# Altium footprint library PCB_Footprint.PcbLib: 124 footprints (part 3 of 8)
Each footprint in its own frame and in the unit in brackets; x right, y up, seen from the top. Pads: shape width x height; smd on the part's side, far side on the other; paste and mask are expansions set on the pad; w line width, h text height; cw(c..) or ccw(c..) is an arc to the next point about the centre after c.
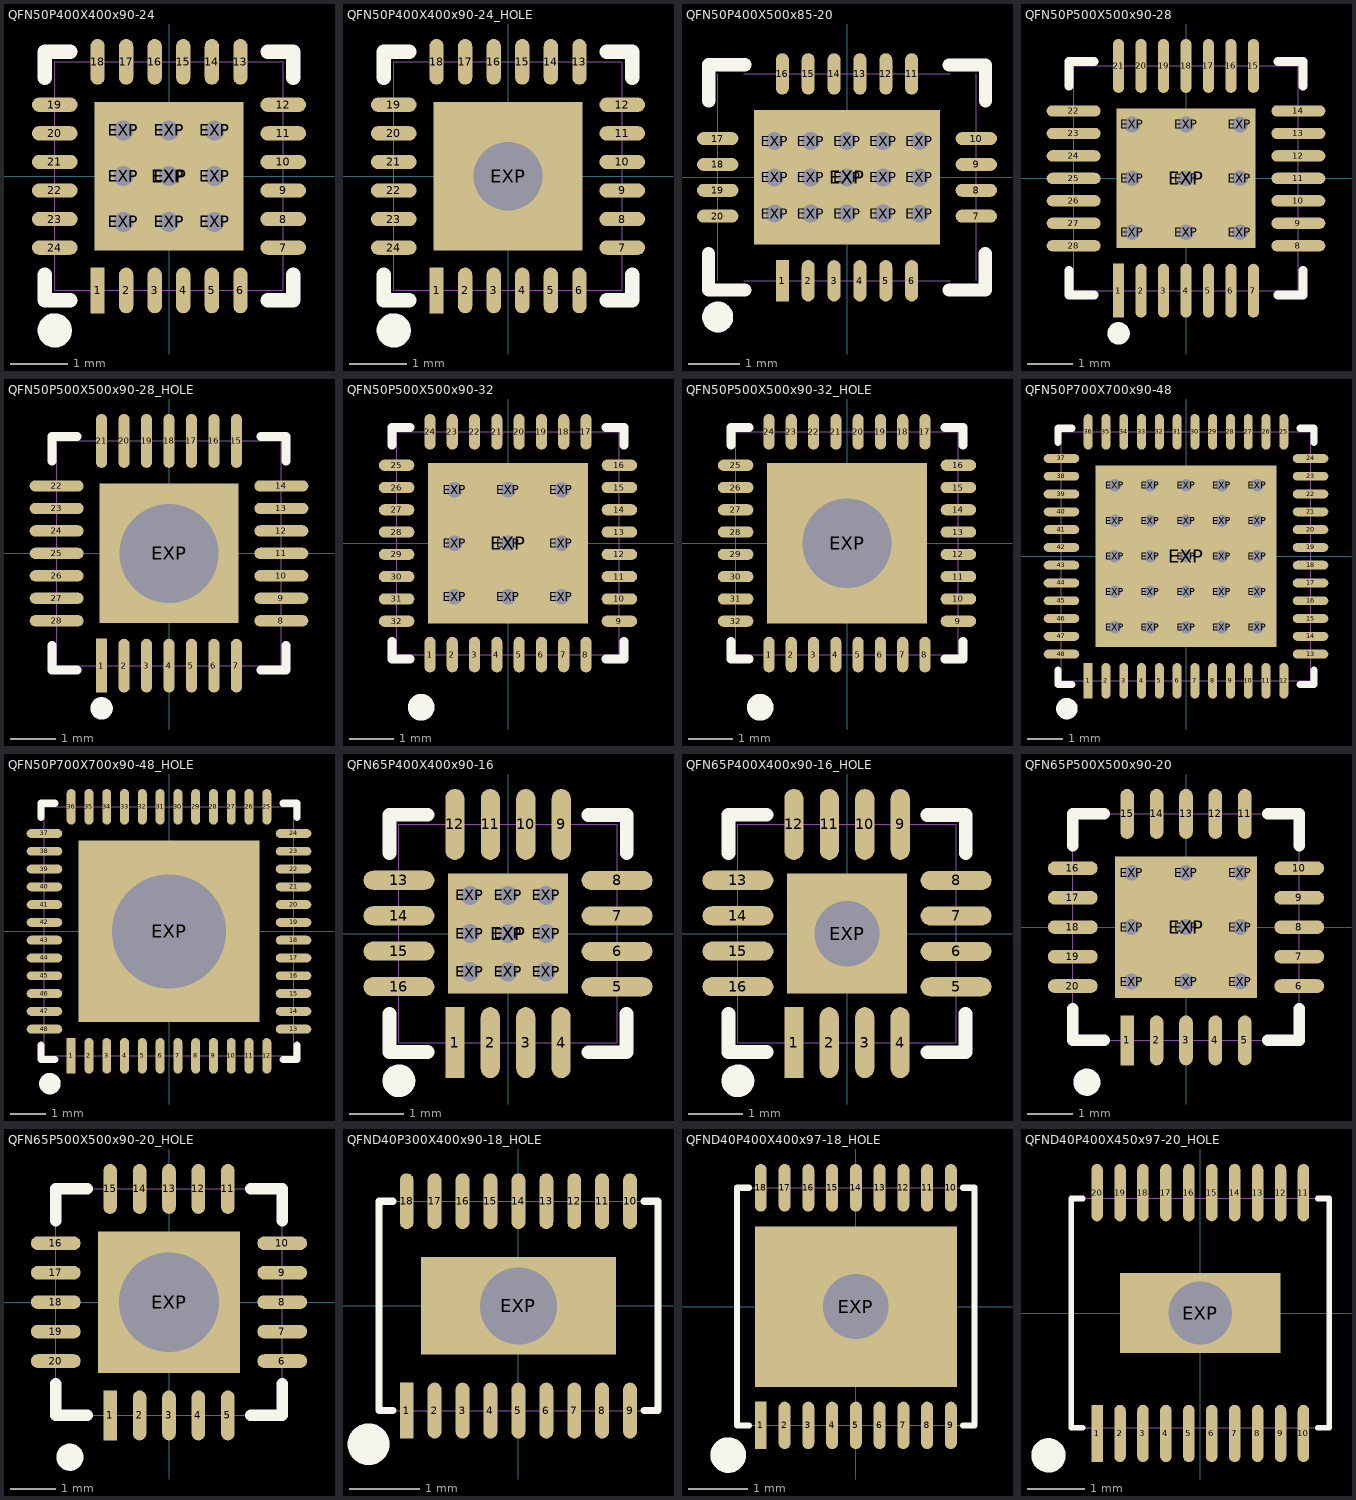
[diagram p2: the footprints below, top view; thin cyan lines are the x and y axes]

## QFN50P400X400x90-24 [mm] "QFN, 24-Leads, Body 4x4x0.9mm, Pitch 0.5mm"
height 0.9
pads (34):
  rect 0.25x0.8 smd: 1(-1.25,-2)
  oval 0.25x0.8 smd: 2(-0.75,-2) 3(-0.25,-2) 4(0.25,-2) 5(0.75,-2) 6(1.25,-2) 13(1.25,2) 14(0.75,2) 15(0.25,2) 16(-0.25,2) 17(-0.75,2) 18(-1.25,2)
  oval 0.8x0.25 smd: 7(2,-1.251) 8(2,-0.751) 9(2,-0.251) 10(2,0.249) 11(2,0.749) 12(2,1.249) 19(-2,1.249) 20(-2,0.749) 21(-2,0.249) 22(-2,-0.251) 23(-2,-0.751) 24(-2,-1.251)
  round 0.65 hole 0.35: EXP(-0.8,-0.8) EXP(-0.8,0) EXP(-0.8,0.8) EXP(0,-0.8) EXP(0,0) EXP(0,0.8) EXP(0.8,-0.8) EXP(0.8,0) EXP(0.8,0.8)
  rect 2.6x2.6 smd: EXP(0,0)
Top Overlay:
  circle w0.3: c-2,-2.7 r0.15
  lines w0.254: -2.175,-2.175 -1.725,-2.175 ; -2.175,2.173 -1.725,2.173 ; -2.174,-2.176 -2.174,-1.726 ; -2.174,1.724 -2.174,2.174 ; 1.725,-2.175 2.175,-2.175 ; 1.725,2.173 2.175,2.173 ; 2.174,-2.176 2.174,-1.726 ; 2.174,1.724 2.174,2.174
Component Body:
  lines w0.01: -2,-2 2,-2 2,2 -2,2 -2,-2
3D body: height 0.9, standoff 0, extent -1.999,-1.999 1.999,1.999

## QFN50P400X400x90-24_HOLE [mm] "QFN, 24-Leads, Body 4x4x0.9mm, Pitch 0.5mm, Hole in exposed pad"
height 0.9
pads (25):
  rect 0.25x0.8 smd: 1(-1.25,-2)
  oval 0.25x0.8 smd: 2(-0.75,-2) 3(-0.25,-2) 4(0.25,-2) 5(0.75,-2) 6(1.25,-2) 13(1.25,2) 14(0.75,2) 15(0.25,2) 16(-0.25,2) 17(-0.75,2) 18(-1.25,2)
  oval 0.8x0.25 smd: 7(2,-1.251) 8(2,-0.751) 9(2,-0.251) 10(2,0.249) 11(2,0.749) 12(2,1.249) 19(-2,1.249) 20(-2,0.749) 21(-2,0.249) 22(-2,-0.251) 23(-2,-0.751) 24(-2,-1.251)
  rect 2.6x2.6 hole 1.2: EXP(0,0)
Top Overlay:
  circle w0.3: c-2,-2.7 r0.15
  lines w0.254: -2.175,-2.175 -1.725,-2.175 ; -2.175,2.173 -1.725,2.173 ; -2.174,-2.176 -2.174,-1.726 ; -2.174,1.724 -2.174,2.174 ; 1.725,-2.175 2.175,-2.175 ; 1.725,2.173 2.175,2.173 ; 2.174,-2.176 2.174,-1.726 ; 2.174,1.724 2.174,2.174
Component Body:
  lines w0.01: -2,-2 2,-2 2,2 -2,2 -2,-2
3D body: height 0.9, standoff 0, extent -1.999,-1.999 1.999,1.999

## QFN50P400X500x85-20 [mm] "QFN, 20-Leads, Body 4x5x0.85mm, Pitch 0.5mm"
height 0.85
pads (36):
  rect 0.25x0.8 smd: 1(-1.25,-2)
  oval 0.25x0.8 smd: 2(-0.75,-2) 3(-0.25,-2) 4(0.25,-2) 5(0.75,-2) 6(1.25,-2) 11(1.25,2) 12(0.75,2) 13(0.25,2) 14(-0.25,2) 15(-0.75,2) 16(-1.25,2)
  oval 0.8x0.25 smd: 7(2.5,-0.75) 8(2.5,-0.25) 9(2.5,0.25) 10(2.5,0.75) 17(-2.5,0.75) 18(-2.5,0.25) 19(-2.5,-0.25) 20(-2.5,-0.75)
  round 0.65 hole 0.35: EXP(-1.4,-0.7) EXP(-1.4,0) EXP(-1.4,0.7) EXP(-0.7,-0.7) EXP(-0.7,0) EXP(-0.7,0.7) EXP(0,-0.7) EXP(0,0) EXP(0,0.7) EXP(0.7,-0.7) EXP(0.7,0) EXP(0.7,0.7) EXP(1.4,-0.7) EXP(1.4,0) EXP(1.4,0.7)
  rect 3.6x2.6 smd: EXP(0,0)
Top Overlay:
  circle w0.3: c-2.5,-2.7 r0.15
  lines w0.254: -2.675,-1.475 -2.675,-2.175 -1.975,-2.175 ; -2.674,1.476 -2.674,2.176 -1.974,2.176 ; 1.974,-2.176 2.674,-2.176 2.674,-1.476 ; 1.976,2.173 2.676,2.173 2.676,1.473
Component Body:
  lines w0.01: -2.5,-2 -2.5,2 ; -2,-2 2,-2 ; -2,2 2,2 ; 2.5,-2 2.5,2
3D body: height 0.85, standoff 0, extent -2.5,-1.999 2.5,1.999

## QFN50P500X500x90-28 [mm] "QFN, 28-Leads, quad, Body 5x5x0.9mm, Pitch 0.5mm"
height 0.9
pads (38):
  rect 0.25x1.2 smd: 1(-1.5,-2.5)
  oval 0.25x1.2 smd: 2(-1,-2.5) 3(-0.5,-2.5) 4(0,-2.5) 5(0.5,-2.5) 6(1,-2.5) 7(1.5,-2.5) 15(1.5,2.5) 16(1,2.5) 17(0.5,2.5) 18(0,2.5) 19(-0.5,2.5) 20(-1,2.5) 21(-1.5,2.5)
  oval 1.2x0.25 smd: 8(2.5,-1.5) 9(2.5,-1) 10(2.5,-0.5) 11(2.5,0) 12(2.5,0.5) 13(2.5,1) 14(2.5,1.5) 22(-2.5,1.5) 23(-2.5,1) 24(-2.5,0.5) 25(-2.5,0) 26(-2.5,-0.5) 27(-2.5,-1) 28(-2.5,-1.5)
  round 0.65 hole 0.35: EXP(-1.2,-1.2) EXP(-1.2,0) EXP(-1.2,1.2) EXP(0,-1.2) EXP(0,0) EXP(0,1.2) EXP(1.2,-1.2) EXP(1.2,0) EXP(1.2,1.2)
  rect 3.1x3.1 smd: EXP(0,0)
Top Overlay:
  circle w0.25: c-1.5,-3.45 r0.125
  lines w0.2: -2.6,-2.05 -2.6,-2.6 -2.05,-2.6 ; -2.6,2.05 -2.6,2.6 -2.05,2.6 ; 2.05,-2.6 2.6,-2.6 2.6,-2.05 ; 2.05,2.6 2.6,2.6 2.6,2.05
Component Body:
  lines w0.01: -2.5,-2.5 2.5,-2.5 2.5,2.5 -2.5,2.5 -2.5,-2.5
3D body: height 0.9, standoff 0, extent -2.5,-2.5 2.5,2.5

## QFN50P500X500x90-28_HOLE [mm] "QFN, 28-Leads, quad, Body 5x5x0.9mm, Pitch 0.5mm, Hole in exposed pad"
height 0.9
pads (29):
  rect 0.25x1.2 smd: 1(-1.5,-2.5)
  oval 0.25x1.2 smd: 2(-1,-2.5) 3(-0.5,-2.5) 4(0,-2.5) 5(0.5,-2.5) 6(1,-2.5) 7(1.5,-2.5) 15(1.5,2.5) 16(1,2.5) 17(0.5,2.5) 18(0,2.5) 19(-0.5,2.5) 20(-1,2.5) 21(-1.5,2.5)
  oval 1.2x0.25 smd: 8(2.5,-1.5) 9(2.5,-1) 10(2.5,-0.5) 11(2.5,0) 12(2.5,0.5) 13(2.5,1) 14(2.5,1.5) 22(-2.5,1.5) 23(-2.5,1) 24(-2.5,0.5) 25(-2.5,0) 26(-2.5,-0.5) 27(-2.5,-1) 28(-2.5,-1.5)
  rect 3.1x3.1 hole 2.2: EXP(0,0)
Top Overlay:
  circle w0.25: c-1.5,-3.45 r0.125
  lines w0.2: -2.6,-2.05 -2.6,-2.6 -2.05,-2.6 ; -2.6,2.05 -2.6,2.6 -2.05,2.6 ; 2.05,-2.6 2.6,-2.6 2.6,-2.05 ; 2.05,2.6 2.6,2.6 2.6,2.05
Component Body:
  lines w0.01: -2.5,-2.5 -2.5,2.5 2.5,2.5 2.5,-2.5 -2.5,-2.5
3D body: height 0.9, standoff 0, extent -2.5,-2.5 2.5,2.5

## QFN50P500X500x90-32 [mm] "QFN, 32-Leads, quad, Body 5x5x0.9mm, Pitch 0.5mm"
height 0.9
pads (42):
  oval 0.25x0.8 smd: 1(-1.75,-2.5) 2(-1.25,-2.5) 3(-0.75,-2.5) 4(-0.25,-2.5) 5(0.25,-2.5) 6(0.75,-2.5) 7(1.25,-2.5) 8(1.75,-2.5) 17(1.75,2.5) 18(1.25,2.5) 19(0.75,2.5) 20(0.25,2.5) 21(-0.25,2.5) 22(-0.75,2.5) 23(-1.25,2.5) 24(-1.75,2.5)
  oval 0.8x0.25 smd: 9(2.5,-1.75) 10(2.5,-1.25) 11(2.5,-0.75) 12(2.5,-0.25) 13(2.5,0.25) 14(2.5,0.75) 15(2.5,1.25) 16(2.5,1.75) 25(-2.5,1.75) 26(-2.5,1.25) 27(-2.5,0.75) 28(-2.5,0.25) 29(-2.5,-0.25) 30(-2.5,-0.75) 31(-2.5,-1.25) 32(-2.5,-1.75)
  round 0.65 hole 0.35: EXP(-1.2,-1.2) EXP(-1.2,0) EXP(-1.2,1.2) EXP(0,-1.2) EXP(0,0) EXP(0,1.2) EXP(1.2,-1.2) EXP(1.2,0) EXP(1.2,1.2)
  rect 3.6x3.6 smd: EXP(0,-0.001)
Top Overlay:
  circle w0.3: c-1.948,-3.683 r0.15
  lines w0.2: -2.6,-2.2 -2.6,-2.6 -2.2,-2.6 ; -2.6,2.2 -2.6,2.6 -2.2,2.6 ; 2.2,-2.6 2.6,-2.6 2.6,-2.2 ; 2.2,2.6 2.6,2.6 2.6,2.2
Bottom Solder:
  circle w0.4: c0,-0.001 r0.2
Component Body:
  lines w0.01: -2.5,-2.5 -2.5,2.5 2.5,2.5 2.5,-2.5 -2.5,-2.5
3D body: height 0.9, standoff 0, extent -2.5,-2.5 2.5,2.5

## QFN50P500X500x90-32_HOLE [mm] "QFN, 32-Leads, quad, Body 5x5x0.9mm, Pitch 0.5mm, Hole in exposed pad"
height 0.9
pads (33):
  oval 0.25x0.8 smd: 1(-1.75,-2.5) 2(-1.25,-2.5) 3(-0.75,-2.5) 4(-0.25,-2.5) 5(0.25,-2.5) 6(0.75,-2.5) 7(1.25,-2.5) 8(1.75,-2.5) 17(1.75,2.5) 18(1.25,2.5) 19(0.75,2.5) 20(0.25,2.5) 21(-0.25,2.5) 22(-0.75,2.5) 23(-1.25,2.5) 24(-1.75,2.5)
  oval 0.8x0.25 smd: 9(2.5,-1.75) 10(2.5,-1.25) 11(2.5,-0.75) 12(2.5,-0.25) 13(2.5,0.25) 14(2.5,0.75) 15(2.5,1.25) 16(2.5,1.75) 25(-2.5,1.75) 26(-2.5,1.25) 27(-2.5,0.75) 28(-2.5,0.25) 29(-2.5,-0.25) 30(-2.5,-0.75) 31(-2.5,-1.25) 32(-2.5,-1.75)
  rect 3.6x3.6 hole 2: EXP(0,-0.001)
Top Overlay:
  circle w0.3: c-1.948,-3.683 r0.15
  lines w0.2: -2.6,-2.2 -2.6,-2.6 -2.2,-2.6 ; -2.6,2.2 -2.6,2.6 -2.2,2.6 ; 2.2,-2.6 2.6,-2.6 2.6,-2.2 ; 2.2,2.6 2.6,2.6 2.6,2.2
Component Body:
  lines w0.01: -2.5,-2.5 -2.5,2.5 2.5,2.5 2.5,-2.5 -2.5,-2.5
3D body: height 0.9, standoff 0, extent -2.5,-2.5 2.5,2.5

## QFN50P700X700x90-48 [mm] "QFN, 48-Leads, quad, Body 7x7x0.9mm, Pitch 0.5mm"
height 0.9
pads (74):
  rect 0.25x1 smd: 1(-2.75,-3.5)
  oval 0.25x1 smd: 2(-2.25,-3.5) 3(-1.75,-3.5) 4(-1.25,-3.5) 5(-0.75,-3.5) 6(-0.25,-3.5) 7(0.25,-3.5) 8(0.75,-3.5) 9(1.25,-3.5) 10(1.75,-3.5) 11(2.25,-3.5) 12(2.75,-3.5) 25(2.75,3.5) 26(2.25,3.5) 27(1.75,3.5) 28(1.25,3.5) 29(0.75,3.5) 30(0.25,3.5) 31(-0.25,3.5) 32(-0.75,3.5) 33(-1.25,3.5) 34(-1.75,3.5) 35(-2.25,3.5) 36(-2.75,3.5)
  oval 1x0.25 smd: 13(3.5,-2.75) 14(3.5,-2.25) 15(3.5,-1.75) 16(3.5,-1.25) 17(3.5,-0.75) 18(3.5,-0.25) 19(3.5,0.25) 20(3.5,0.75) 21(3.5,1.25) 22(3.5,1.75) 23(3.5,2.25) 24(3.5,2.75) 37(-3.5,2.75) 38(-3.5,2.25) 39(-3.5,1.75) 40(-3.5,1.25) 41(-3.5,0.75) 42(-3.5,0.25) 43(-3.5,-0.25) 44(-3.5,-0.75) 45(-3.5,-1.25) 46(-3.5,-1.75) 47(-3.5,-2.25) 48(-3.5,-2.75)
  round 0.65 hole 0.35: EXP(-2,-1.999) EXP(-2,-1) EXP(-2,0.001) EXP(-2,1) EXP(-2,2) EXP(-1,-2) EXP(-1,-1.001) EXP(-1,0) EXP(-1,0.999) EXP(-1,1.999) EXP(0,-1.999) EXP(0,-1) EXP(0,0) EXP(0,1) EXP(0,2) EXP(1,-2) EXP(1,-1.001) EXP(1,0) EXP(1,0.999) EXP(1,1.999) EXP(2,-2) EXP(2,-1.001) EXP(2,0) EXP(2,0.999) EXP(2,1.999)
  rect 5.1x5.1 smd: EXP(0,0)
Top Overlay:
  circle w0.3: c-3.348,-4.283 r0.15
  lines w0.2: -3.6,-3.2 -3.6,-3.6 -3.2,-3.6 ; -3.6,3.2 -3.6,3.6 -3.2,3.6 ; 3.2,-3.6 3.6,-3.6 3.6,-3.2 ; 3.2,3.6 3.6,3.6 3.6,3.2
Bottom Solder:
  circle w0.4: c0,0 r0.2
Component Body:
  lines w0.01: -3.5,-3.5 3.5,-3.5 3.5,3.5 -3.5,3.5 -3.5,-3.5
3D body: height 0.9, standoff 0, extent -3.5,-3.5 3.5,3.5

## QFN50P700X700x90-48_HOLE [mm] "QFN, 48-Leads, quad, Body 7x7x0.9mm, Pitch 0.5mm, Hole in exposed pad"
height 0.9
pads (49):
  rect 0.25x1 smd: 1(-2.75,-3.5)
  oval 0.25x1 smd: 2(-2.25,-3.5) 3(-1.75,-3.5) 4(-1.25,-3.5) 5(-0.75,-3.5) 6(-0.25,-3.5) 7(0.25,-3.5) 8(0.75,-3.5) 9(1.25,-3.5) 10(1.75,-3.5) 11(2.25,-3.5) 12(2.75,-3.5) 25(2.75,3.5) 26(2.25,3.5) 27(1.75,3.5) 28(1.25,3.5) 29(0.75,3.5) 30(0.25,3.5) 31(-0.25,3.5) 32(-0.75,3.5) 33(-1.25,3.5) 34(-1.75,3.5) 35(-2.25,3.5) 36(-2.75,3.5)
  oval 1x0.25 smd: 13(3.5,-2.75) 14(3.5,-2.25) 15(3.5,-1.75) 16(3.5,-1.25) 17(3.5,-0.75) 18(3.5,-0.25) 19(3.5,0.25) 20(3.5,0.75) 21(3.5,1.25) 22(3.5,1.75) 23(3.5,2.25) 24(3.5,2.75) 37(-3.5,2.75) 38(-3.5,2.25) 39(-3.5,1.75) 40(-3.5,1.25) 41(-3.5,0.75) 42(-3.5,0.25) 43(-3.5,-0.25) 44(-3.5,-0.75) 45(-3.5,-1.25) 46(-3.5,-1.75) 47(-3.5,-2.25) 48(-3.5,-2.75)
  rect 5.1x5.1 hole 3.2: EXP(0,-0.001)
Top Overlay:
  circle w0.3: c-3.348,-4.283 r0.15
  lines w0.2: -3.6,-3.2 -3.6,-3.6 -3.2,-3.6 ; -3.6,3.2 -3.6,3.6 -3.2,3.6 ; 3.2,-3.6 3.6,-3.6 3.6,-3.2 ; 3.2,3.6 3.6,3.6 3.6,3.2
Component Body:
  lines w0.01: -3.5,-3.5 3.5,-3.5 3.5,3.5 -3.5,3.5 -3.5,-3.5
3D body: height 0.9, standoff 0, extent -3.5,-3.5 3.5,3.5

## QFN65P400X400x90-16 [mm] "QFN, 16-Leads, Body 4x4x0.9mm, Pitch 0.65mm"
height 0.9
pads (26):
  rect 0.35x1.3 smd: 1(-0.975,-2)
  oval 0.35x1.3 smd: 2(-0.325,-2) 3(0.325,-2) 4(0.975,-2) 9(0.976,1.999) 10(0.326,1.999) 11(-0.324,1.999) 12(-0.974,1.999)
  oval 1.3x0.35 smd: 5(1.999,-0.976) 6(1.999,-0.326) 7(1.999,0.324) 8(1.999,0.974) 13(-1.999,0.976) 14(-1.999,0.326) 15(-1.999,-0.324) 16(-1.999,-0.974)
  round 0.65 hole 0.35: EXP(-0.7,-0.7) EXP(-0.7,0) EXP(-0.7,0.7) EXP(0,-0.7) EXP(0,0) EXP(0,0.7) EXP(0.7,-0.7) EXP(0.7,0) EXP(0.7,0.7)
  rect 2.2x2.2 smd: EXP(0,0)
Top Overlay:
  circle w0.3: c-2,-2.7 r0.15
  lines w0.254: -2.175,-1.475 -2.175,-2.175 -1.475,-2.175 ; -2.174,1.476 -2.174,2.176 -1.474,2.176 ; 1.474,-2.176 2.174,-2.176 2.174,-1.476 ; 1.476,2.173 2.176,2.173 2.176,1.473
Component Body:
  lines w0.01: -2,-2 -2,2 2,2 2,-2 -2,-2
3D body: height 0.9, standoff 0, extent -1.999,-1.999 1.999,1.999

## QFN65P400X400x90-16_HOLE [mm] "QFN, 16-Leads, Body 4x4x0.9mm, Pitch 0.65mm, Hole in exposed pad"
height 0.9
pads (17):
  rect 0.35x1.3 smd: 1(-0.975,-2)
  oval 0.35x1.3 smd: 2(-0.325,-2) 3(0.325,-2) 4(0.975,-2) 9(0.976,1.999) 10(0.326,1.999) 11(-0.324,1.999) 12(-0.974,1.999)
  oval 1.3x0.35 smd: 5(1.999,-0.976) 6(1.999,-0.326) 7(1.999,0.324) 8(1.999,0.974) 13(-1.999,0.976) 14(-1.999,0.326) 15(-1.999,-0.324) 16(-1.999,-0.974)
  rect 2.2x2.2 hole 1.2: EXP(0,-0.001)
Top Overlay:
  circle w0.3: c-2,-2.7 r0.15
  lines w0.254: -2.175,-1.475 -2.175,-2.175 -1.475,-2.175 ; -2.174,1.476 -2.174,2.176 -1.474,2.176 ; 1.474,-2.176 2.174,-2.176 2.174,-1.476 ; 1.476,2.173 2.176,2.173 2.176,1.473
Component Body:
  lines w0.01: -2,-2 2,-2 2,2 -2,2 -2,-2
3D body: height 0.9, standoff 0, extent -1.999,-1.999 1.999,1.999

## QFN65P500X500x90-20 [mm] "QFN, 20-Leads, quad, Body 5x5x0.9mm, Pitch 0.65mm"
height 0.9
pads (30):
  rect 0.3x1.1 smd: 1(-1.3,-2.5)
  oval 0.3x1.1 smd: 2(-0.65,-2.5) 3(0,-2.5) 4(0.65,-2.5) 5(1.3,-2.5) 11(1.3,2.5) 12(0.65,2.5) 13(0,2.5) 14(-0.65,2.5) 15(-1.3,2.5)
  oval 1.1x0.3 smd: 6(2.5,-1.3) 7(2.5,-0.65) 8(2.5,0) 9(2.5,0.65) 10(2.5,1.3) 16(-2.5,1.3) 17(-2.5,0.65) 18(-2.5,0) 19(-2.5,-0.65) 20(-2.5,-1.3)
  round 0.65 hole 0.35: EXP(-1.2,-1.2) EXP(-1.2,0) EXP(-1.2,1.2) EXP(0,-1.2) EXP(0,0) EXP(0,1.2) EXP(1.2,-1.2) EXP(1.2,0) EXP(1.2,1.2)
  rect 3.125x3.125 smd: EXP(0,0)
Top Overlay:
  circle w0.3: c-2.188,-3.423 r0.15
  lines w0.254: -2.5,-1.8 -2.5,-2.5 -1.8,-2.5 ; -2.5,1.8 -2.5,2.5 -1.8,2.5 ; 1.8,-2.5 2.5,-2.5 2.5,-1.8 ; 1.8,2.5 2.5,2.5 2.5,1.8
Component Body:
  lines w0.01: -2.5,-2.5 -2.5,2.5 2.5,2.5 2.5,-2.5 -2.5,-2.5
3D body: height 0.9, standoff 0, extent -2.5,-2.5 2.5,2.5

## QFN65P500X500x90-20_HOLE [mm] "QFN, 20-Leads, quad, Body 5x5x0.9mm, Pitch 0.65mm, Hole in exposed pad"
height 0.9
pads (21):
  rect 0.3x1.1 smd: 1(-1.3,-2.5)
  oval 0.3x1.1 smd: 2(-0.65,-2.5) 3(0,-2.5) 4(0.65,-2.5) 5(1.3,-2.5) 11(1.3,2.5) 12(0.65,2.5) 13(0,2.5) 14(-0.65,2.5) 15(-1.3,2.5)
  oval 1.1x0.3 smd: 6(2.5,-1.3) 7(2.5,-0.65) 8(2.5,0) 9(2.5,0.65) 10(2.5,1.3) 16(-2.5,1.3) 17(-2.5,0.65) 18(-2.5,0) 19(-2.5,-0.65) 20(-2.5,-1.3)
  rect 3.125x3.125 hole 2.2: EXP(0,0)
Top Overlay:
  circle w0.3: c-2.188,-3.423 r0.15
  lines w0.254: -2.5,-1.8 -2.5,-2.5 -1.8,-2.5 ; -2.5,1.8 -2.5,2.5 -1.8,2.5 ; 1.8,-2.5 2.5,-2.5 2.5,-1.8 ; 1.8,2.5 2.5,2.5 2.5,1.8
Component Body:
  lines w0.01: -2.5,-2.5 -2.5,2.5 2.5,2.5 2.5,-2.5 -2.5,-2.5
3D body: height 0.9, standoff 0, extent -2.5,-2.5 2.5,2.5

## QFND40P300X400x90-18_HOLE [mm] "QFN, 18-Leads, dual, Body 3x4x0.9mm, Pitch 0.4mm, Hole in exposed pad"
height 0.9
pads (19):
  rect 0.2x0.8 smd: 1(-1.6,-1.501)
  oval 0.2x0.8 smd: 2(-1.2,-1.501) 3(-0.8,-1.501) 4(-0.4,-1.501) 5(0,-1.501) 6(0.4,-1.501) 7(0.8,-1.501) 8(1.2,-1.501) 9(1.6,-1.501) 10(1.6,1.499) 11(1.2,1.499) 12(0.8,1.499) 13(0.4,1.499) 14(0,1.499) 15(-0.4,1.499) 16(-0.8,1.499) 17(-1.2,1.499) 18(-1.6,1.499)
  rect 2.794x1.397 hole 1.1: EXP(0,-0.001)
Top Overlay:
  circle w0.3: c-2.148,-1.983 r0.15
  lines w0.102: -1.8,-1.501 -2,-1.501 -2,1.499 -1.8,1.499 ; 1.8,-1.501 2,-1.501 2,1.499 1.8,1.499
Component Body:
  lines w0.01: -2,-1.5 2,-1.5 2,1.5 -2,1.5 -2,-1.5
3D body: height 0.9, standoff 0, extent -2,-1.5 2,1.5

## QFND40P400X400x97-18_HOLE [mm] "QFN, 18-Leads, dual, Body 4x4x0.97mm, Pitch 0.4mm, Hole in exposed pad"
height 0.97
pads (19):
  rect 0.2x0.8 smd: 1(-1.6,-2)
  oval 0.2x0.8 smd: 2(-1.2,-2) 3(-0.8,-2) 4(-0.4,-2) 5(0,-2) 6(0.4,-2) 7(0.8,-2) 8(1.2,-2) 9(1.6,-2) 10(1.6,2) 11(1.2,2) 12(0.8,2) 13(0.4,2) 14(0,2) 15(-0.4,2) 16(-0.8,2) 17(-1.2,2) 18(-1.6,2)
  rect 3.4x2.7 / inner round 1.9 / far side oval 1.6x1.397 hole 1.1: EXP(0,0)
Top Overlay:
  circle w0.3: c-2.148,-2.5 r0.15
  lines w0.1: -2,-2 -1.8,-2
  lines w0.102: -2,-2 -2,2 -1.8,2 ; 1.8,-2 2,-2 2,2 1.8,2
Component Body:
  lines w0.01: -2,-2 2,-2 2,2 -2,2 -2,-2
3D body: height 0.97, standoff 0, extent -2,-2 2,2

## QFND40P400X450x97-20_HOLE [mm] "QFN, 20-Leads, dual, Body 4x4.5x0.97mm, Pitch 0.4mm, Hole in exposed pad"
height 0.97
pads (21):
  rect 0.2x1 smd: 1(-1.8,-2.1)
  oval 0.2x1 smd: 2(-1.4,-2.1) 3(-1,-2.1) 4(-0.6,-2.1) 5(-0.2,-2.1) 6(0.2,-2.1) 7(0.6,-2.1) 8(1,-2.1) 9(1.4,-2.1) 10(1.8,-2.1) 11(1.8,2.1) 12(1.4,2.1) 13(1,2.1) 14(0.6,2.1) 15(0.2,2.1) 16(-0.2,2.1) 17(-0.6,2.1) 18(-1,2.1) 19(-1.4,2.1) 20(-1.8,2.1)
  rect 2.794x1.397 hole 1.1: EXP(0,-0.001)
Top Overlay:
  circle w0.3: c-2.648,-2.483 r0.15
  lines w0.102: -2.25,-2.001 -2.05,-2.001 ; -2.25,-2 -2.25,2 ; -2.25,1.999 -2.05,1.999 ; 2.05,-2.001 2.25,-2.001 ; 2.05,1.999 2.25,1.999 ; 2.25,-2 2.25,2
Component Body:
  lines w0.01: -2.25,-2 -2.25,2 2.25,2 2.25,-2 -2.25,-2
3D body: height 0.97, standoff 0, extent -2.25,-2 2.25,2